# Altium schematic symbol library AMA4PEVB.SCHLIB: 14 symbols
Pins are listed as number, name and electrical type; pins without a type are passive.

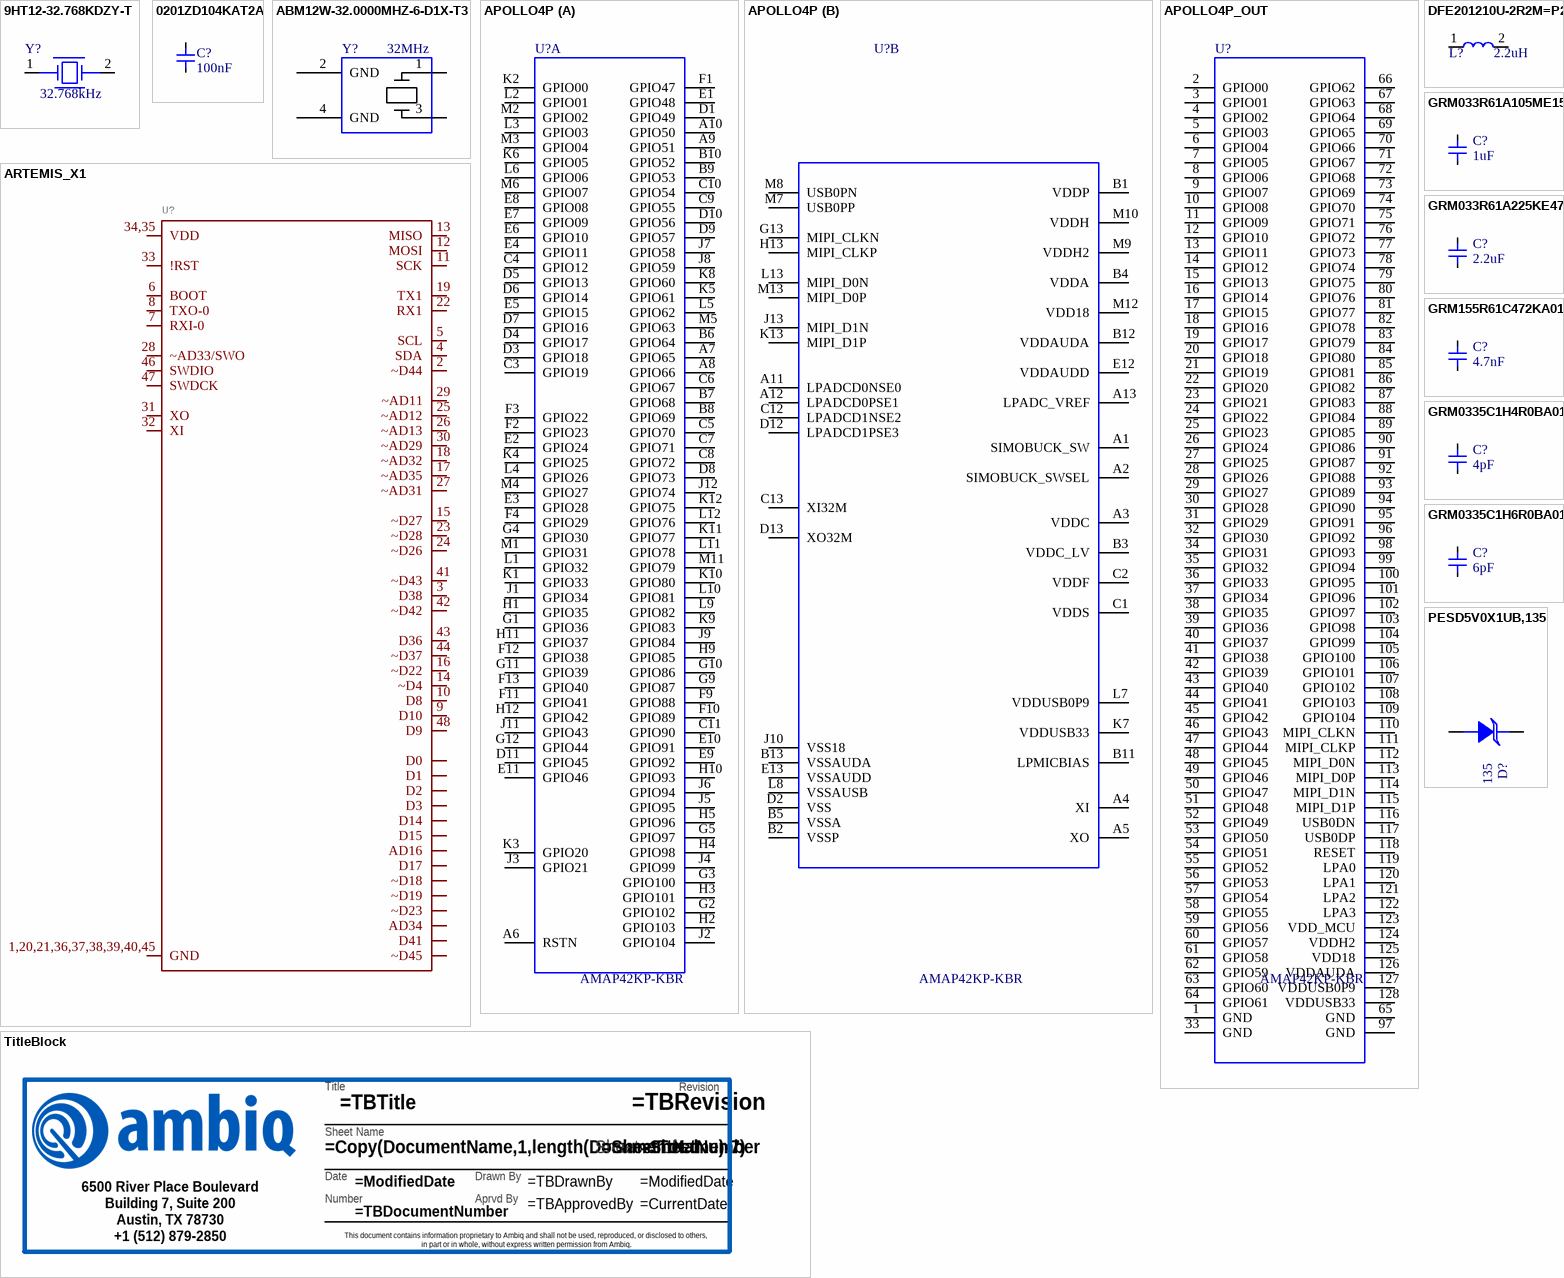
[diagram p0: symbols 9HT12-32.768KDZY-T to TitleBlock]

## 9HT12-32.768KDZY-T
designator Y?, comment 32.768kHz
NONE; Manufacturer: TXC; AMBIQ PN: 9HT12-32.768KDZY-T; Load Capacitance: 7pF; ESR (Equivalent Series Resistance): 90kR; Frequency Tolerance: 20ppm; Supplier 1: Newark; Supplier Part Number 1: 45AC5777; Manufacturer Part Number: 9HT12-32.768KDZY-T; RoHS: Yes; Category: Crystals; Stock 1: 2496; Pricing 1: 1=1.39000, 10=1.33000, 25=1.26000, 50=1.19000, 100=1.12000 (USD); Mount: Surface Mount; Case/Package: SMD/SMT; Min Operating Temperature: -40°C; Max Operating Temperature: 85°C; Packaging: Tape and Reel; Frequency: 32.768kHz; Length: 0.063inch; Width: 0.039inch; Height: 0.02inch; Lead Free: Lead Free; ComponentLink1URL: http://www.txccrystal.com/images/pdf/number-crystal-khz.pdf?src-supplier=Digi-Key; ComponentLink1Description: http://www.txccrystal.com/images/pdf/number-crystal-khz.pdf?src-supplier=Digi-Key; ComponentLink2URL: http://www.txccrystal.com/images/pdf/9ht12.pdf?src-supplier=Digi-Key; ComponentLink2Description: http://www.txccrystal.com/images/pdf/9ht12.pdf?src-supplier=Digi-Key
footprint XTAL2-1P6X1P0-SM
pins: 1, 2

## 0201ZD104KAT2A
designator C?, comment 100nF
NONE; Manufacturer: Kyocera AVX; AMBIQ PN: 0201ZD104KAT2A; Tolerance: 10%; Voltage Rating: 10V; Supplier 1: Arrow Electronics; Supplier Part Number 1: 0201ZD104KAT2A; Manufacturer Part Number: 0201ZD104KAT2A; RoHS: Yes; Category: Ceramic Capacitors; Stock 1: 105000; Pricing 1: 15000=0.00770, 30000=0.00750, 45000=0.00740, 60000=0.00720, 75000=0.00690, 150000=0.00620 (USD); Mount: Surface Mount; Case/Package: 0201; Case Code (Metric): 0603; Case Code (Imperial): 0201; Min Operating Temperature: -55°C; Max Operating Temperature: 85°C; Capacitance: 100nF; Packaging: Tape and Reel; Voltage Rating (DC): 10V; Series: -; Lead Free: Lead Free; RoHS Compliant: Yes; ComponentLink1URL: http://www.mouser.com/ds/2/40/cx5r-776519.pdf?src-supplier=Mouser; ComponentLink1Description: http://www.mouser.com/ds/2/40/cx5r-776519.pdf?src-supplier=Mouser
footprint IPC_A
footprint IPC_B
footprint IPC_C
footprint MFG
pins: 1, 2

## ABM12W-32.0000MHZ-6-D1X-T3
designator Y?, comment 32MHz
NONE; Manufacturer: Abracon; AMBIQ PN: ABM12W-32.0000MHZ-6-D1X-T3; Load Capacitance: 6pF; ESR (Equivalent Series Resistance): 100R; Frequency Tolerance: 10ppm; Frequency Stability: 20ppm; Supplier 1: Mouser; Supplier Part Number 1: 815-12W32-6D1XT; Manufacturer Part Number: ABM12W-32.0000MHZ-6-D1X-T3; RoHS: Yes; Category: Crystals; Stock 1: 2341; Pricing 1: 1=0.99000, 10=0.88400, 50=0.88400, 100=0.73000, 1000=0.57600, 10000=0.53700 (USD); Mount: Surface Mount; Case/Package: SMD/SMT; Min Operating Temperature: -40°C; Max Operating Temperature: 85°C; Packaging: Tape and Reel; Frequency: 32MHz; ComponentLink1URL: https://abracon.com/Resonators/ABM12W.pdf?src-supplier=Digi-Key; ComponentLink1Description: https://abracon.com/Resonators/ABM12W.pdf?src-supplier=Digi-Key; RoHS Compliant: Yes
footprint XOSC_ABM12W_1.2x1.6
pins: 1, 2 GND, 3, 4 GND

## APOLLO4P
designator U?, comment AMAP42KP-KBR
None; AMBIQ PN: APOLLO4P; Category: Microcontrollers
footprint BGA146C35P13X12_390X430X350
part A pins: A6 RSTN, A7 GPIO65, A8 GPIO66, A9 GPIO51, A10 GPIO50, B6 GPIO64, B7 GPIO68, B8 GPIO69, B9 GPIO53, B10 GPIO52, C3 GPIO19, C4 GPIO12, C5 GPIO70, C6 GPIO67, C7 GPIO71, C8 GPIO72, C9 GPIO55, C10 GPIO54, C11 GPIO90, D1 GPIO49, D3 GPIO18, D4 GPIO17, D5 GPIO13, D6 GPIO14, D7 GPIO16, D8 GPIO73, D9 GPIO57, D10 GPIO56, D11 GPIO45, E1 GPIO48, E2 GPIO24, E3 GPIO28, E4 GPIO11, E5 GPIO15, E6 GPIO10, E7 GPIO09, E8 GPIO08, E9 GPIO92, E10 GPIO91, E11 GPIO46, F1 GPIO47, F2 GPIO23, F3 GPIO22, F4 GPIO29, F9 GPIO88, F10 GPIO89, F11 GPIO41, F12 GPIO38, F13 GPIO40, G1 GPIO36, G2 GPIO102, G3 GPIO100, G4 GPIO30, G5 GPIO97, G9 GPIO87, G10 GPIO86, G11 GPIO39, G12 GPIO44, H1 GPIO35, H2 GPIO103, H3 GPIO101, H4 GPIO98, H5 GPIO96, H9 GPIO85, H10 GPIO93, H11 GPIO37, H12 GPIO42, J1 GPIO34, J2 GPIO104, J3 GPIO21, J4 GPIO99, J5 GPIO95, J6 GPIO94, J7 GPIO58, J8 GPIO59, J9 GPIO84, J11 GPIO43, J12 GPIO74, K1 GPIO33, K2 GPIO00, K3 GPIO20, K4 GPIO25, K5 GPIO61, K6 GPIO05, K8 GPIO60, K9 GPIO83, K10 GPIO80, K11 GPIO77, K12 GPIO75, L1 GPIO32, L2 GPIO01, L3 GPIO03, L4 GPIO26, L5 GPIO62, L6 GPIO06, L9 GPIO82, L10 GPIO81, L11 GPIO78, L12 GPIO76, M1 GPIO31, M2 GPIO02, M3 GPIO04, M4 GPIO27, M5 GPIO63, M6 GPIO07, M11 GPIO79
part B pins: A1 SIMOBUCK_SW, A2 SIMOBUCK_SWSEL, A3 VDDC, A4 XI, A5 XO, A11 LPADCD0NSE0, A12 LPADCD0PSE1, A13 LPADC_VREF, B1 VDDP (power), B2 VSSP, B3 VDDC_LV, B4 VDDA, B5 VSSA, B11 LPMICBIAS, B12 VDDAUDA, B13 VSSAUDA, C1 VDDS, C2 VDDF, C12 LPADCD1NSE2, C13 XI32M, D2 VSS, D12 LPADCD1PSE3, D13 XO32M, E12 VDDAUDD, E13 VSSAUDD, G13 MIPI_CLKN, H13 MIPI_CLKP, J10 VSS18, J13 MIPI_D1N, K7 VDDUSB33, K13 MIPI_D1P, L7 VDDUSB0P9, L8 VSSAUSB, L13 MIPI_D0N, M7 USB0PP, M8 USB0PN, M9 VDDH2, M10 VDDH, M12 VDD18, M13 MIPI_D0P

## APOLLO4P_OUT
designator U?, comment AMAP42KP-KBR
None; AMBIQ PN: APOLLO4P; Category: Microcontrollers
footprint AMAP4P
pins: 1 GND, 2 GPIO00, 3 GPIO01, 4 GPIO02, 5 GPIO03, 6 GPIO04, 7 GPIO05, 8 GPIO06, 9 GPIO07, 10 GPIO08, 11 GPIO09, 12 GPIO10, 13 GPIO11, 14 GPIO12, 15 GPIO13, 16 GPIO14, 17 GPIO15, 18 GPIO16, 19 GPIO17, 20 GPIO18, 21 GPIO19, 22 GPIO20, 23 GPIO21, 24 GPIO22, 25 GPIO23, 26 GPIO24, 27 GPIO25, 28 GPIO26, 29 GPIO27, 30 GPIO28, 31 GPIO29, 32 GPIO30, 33 GND, 34 GPIO31, 35 GPIO32, 36 GPIO33, 37 GPIO34, 38 GPIO35, 39 GPIO36, 40 GPIO37, 41 GPIO38, 42 GPIO39, 43 GPIO40, 44 GPIO41, 45 GPIO42, 46 GPIO43, 47 GPIO44, 48 GPIO45, 49 GPIO46, 50 GPIO47, 51 GPIO48, 52 GPIO49, 53 GPIO50, 54 GPIO51, 55 GPIO52, 56 GPIO53, 57 GPIO54, 58 GPIO55, 59 GPIO56, 60 GPIO57, 61 GPIO58, 62 GPIO59, 63 GPIO60, 64 GPIO61, 65 GND, 66 GPIO62, 67 GPIO63, 68 GPIO64, 69 GPIO65, 70 GPIO66, 71 GPIO67, 72 GPIO68, 73 GPIO69, 74 GPIO70, 75 GPIO71, 76 GPIO72, 77 GPIO73, 78 GPIO74, 79 GPIO75, 80 GPIO76, 81 GPIO77, 82 GPIO78, 83 GPIO79, 84 GPIO80, 85 GPIO81, 86 GPIO82, 87 GPIO83, 88 GPIO84, 89 GPIO85, 90 GPIO86, 91 GPIO87, 92 GPIO88, 93 GPIO89, 94 GPIO90, 95 GPIO91, 96 GPIO92, 97 GND, 98 GPIO93, 99 GPIO94, 100 GPIO95, 101 GPIO96, 102 GPIO97, 103 GPIO98, 104 GPIO99, 105 GPIO100, 106 GPIO101, 107 GPIO102, 108 GPIO103, 109 GPIO104, 110 MIPI_CLKN, 111 MIPI_CLKP, 112 MIPI_D0N, 113 MIPI_D0P, 114 MIPI_D1N, 115 MIPI_D1P, 116 USB0DN, 117 USB0DP, 118 RESET, 119 LPA0, 120 LPA1, 121 LPA2, 122 LPA3, 123 VDD_MCU, 124 VDDH2, 125 VDD18, 126 VDDAUDA, 127 VDDUSB0P9, 128 VDDUSB33

## ARTEMIS_X1
designator U?
GateName_1: G$1; SymbolName_1: ARTEMIS; DeviceSetName: ARTEMIS_X1; PROD_ID: SUB-14359; LibraryName: Module-Pads; Package: ARTEMIS
footprint AMAP4P
pins: 1,20,21,36,37,38,39,40,45 GND (io), 2 ~D44 (io), 3 D38 (io), 4 SDA (io), 5 SCL (io), 6 BOOT (io), 7 RXI-0 (io), 8 TXO-0 (io), 9 D10 (io), 10 D8 (io), 11 SCK (io), 12 MOSI (io), 13 MISO (io), 14 ~D4 (io), 15 ~D27 (io), 16 ~D22 (io), 17 ~AD35 (io), 18 ~AD32 (io), 19 TX1 (io), 22 RX1 (io), 23 ~D28 (io), 24 ~D26 (io), 25 ~AD12 (io), 26 ~AD13 (io), 27 ~AD31 (io), 28 ~AD33/SWO (io), 29 ~AD11 (io), 30 ~AD29 (io), 31 XO (io), 32 XI (io), 33 !RST (io), 34,35 VDD (io), 41 ~D43 (io), 42 ~D42 (io), 43 D36 (io), 44 ~D37 (io), 46 SWDIO (io), 47 SWDCK (io), 48 D9 (io), ?1 D15 (io), ?2 D14 (io), ?3 D3 (io), ?4 D2 (io), ?5 D0 (io), ?6 D1 (io), ?7 AD16 (io), ?8 D41 (io), ?9 AD34 (io), ?10 ~D23 (io), ?11 ~D19 (io), ?12 D17 (io), ?13 ~D18 (io), ?14 ~D45 (io)

## DFE201210U-2R2M=P2
designator L?, comment 2.2uH
NONE; Manufacturer: Murata; AMBIQ PN: DFE201210U-2R2M=P2; Supplier 1: Arrow Electronics; Supplier Part Number 1: DFE201210U-2R2M=P2; Manufacturer Part Number: DFE201210U-2R2M=P2; RoHS: Yes; Category: Fixed Inductors; Stock 1: 206; Pricing 1: 1=0.40140, 10=0.29940, 25=0.27320, 100=0.22140 (USD); RoHS Compliant: Yes; ComponentLink1URL: http://search.murata.co.jp/Ceramy/image/img/P02/J(E)TE243A-0029_DFE201210U_reference.pdf?src-supplier=Digi-Key; ComponentLink1Description: http://search.murata.co.jp/Ceramy/image/img/P02/J(E)TE243A-0029_DFE201210U_reference.pdf?src-supplier=Digi-Key; Case/Package: 0805
footprint IPC_A
footprint IPC_B
footprint IPC_C
footprint MFG
pins: 1, 2

## GRM033R61A105ME15D
designator C?, comment 1uF
NONE; Manufacturer: Murata; AMBIQ PN: GRM033R61A105ME15D; Tolerance: 20%; Voltage Rating: 10V; Dielectric: X5R; Supplier 1: Arrow Electronics; Supplier Part Number 1: GRM033R61A105ME15D; Manufacturer Part Number: GRM033R61A105ME15D; RoHS: Yes; Category: Ceramic Capacitors; Stock 1: 387591; Pricing 1: 1=0.35440, 10=0.26860, 25=0.26600, 50=0.24050, 100=0.18220, 250=0.18020, 500=0.17800, 1000=0.12040, 3000=0.11920, 6000=0.08160,; Mount: Surface Mount; Case/Package: 0201; Case Code (Metric): 0603; Case Code (Imperial): 0201; Min Operating Temperature: -55°C; Max Operating Temperature: 85°C; Capacitance: 1uF; Packaging: Tape and Reel; Voltage Rating (DC): 10V; Length: 0.024inch; Width: 0.012inch; Thickness: 0.015inch; RoHS Compliant: Yes; ComponentLink1URL: http://search.murata.co.jp/Ceramy/image/img/A01X/G101/ENG/GRM033R61A105ME15-01.pdf?src-supplier=Digi-Key; ComponentLink1Description: http://search.murata.co.jp/Ceramy/image/img/A01X/G101/ENG/GRM033R61A105ME15-01.pdf?src-supplier=Digi-Key
footprint IPC_A
footprint IPC_B
footprint IPC_C
footprint MFG
pins: 1, 2

## GRM033R61A225KE47D
designator C?, comment 2.2uF
NONE; Manufacturer: Murata; AMBIQ PN: GRM033R61A225KE47D; Tolerance: 10%; Voltage Rating: 10V; Dielectric: X5R; Supplier 1: Arrow Electronics; Supplier Part Number 1: GRM033R61A225KE47D; Manufacturer Part Number: GRM033R61A225KE47D; RoHS: Yes; Category: Ceramic Capacitors; Stock 1: 990; Pricing 1: 1=0.27590, 10=0.23000, 25=0.18010, 100=0.10000, 250=0.09900, 500=0.06860, 1000=0.06790, 3000=0.06720, 6000=0.05140, 15000=0.050; Mount: Surface Mount; Case/Package: 0201; Case Code (Metric): 0603; Case Code (Imperial): 0201; Min Operating Temperature: -55°C; Max Operating Temperature: 85°C; Capacitance: 2.2uF; Packaging: Tape and Reel; Voltage Rating (DC): 10V; Length: 0.024inch; Width: 0.012inch; Thickness: 0.015inch; RoHS Compliant: Yes; ComponentLink1URL: http://search.murata.co.jp/Ceramy/image/img/A01X/G101/ENG/GRM033R61A225KE47-01.pdf?src-supplier=Digi-Key; ComponentLink1Description: http://search.murata.co.jp/Ceramy/image/img/A01X/G101/ENG/GRM033R61A225KE47-01.pdf?src-supplier=Digi-Key
footprint IPC_A
footprint IPC_B
footprint IPC_C
footprint MFG
pins: 1, 2

## GRM155R61C472KA01D
designator C?, comment 4.7nF
NONE; Manufacturer: Murata; AMBIQ PN: GRM155R61C472KA01D; Tolerance: 10%; Voltage Rating: 16V; Dielectric: X5R; Supplier 1: Arrow Electronics; Supplier Part Number 1: GRM155R61C472KA01D; Manufacturer Part Number: GRM155R61C472KA01D; RoHS: Yes; Category: Ceramic Capacitors; Stock 1: 3; Pricing 1: 1=0.07090 (USD); Mount: Surface Mount; Case/Package: 0402; Case Code (Metric): 1005; Case Code (Imperial): 0402; Min Operating Temperature: -55°C; Max Operating Temperature: 85°C; Capacitance: 4.7nF; Packaging: Tape and Reel; Voltage Rating (DC): 16V; Series: GRM; Construction: Flat; Length: 1mm; Width: 0.02inch; Height: 0.5mm; Thickness: 0.022inch; Depth: 0.5mm; Radiation Hardening: No; RoHS Compliant: Yes; ComponentLink1URL: https://datasheet.ciiva.com/11620/product-11620403.pdf?src-supplier=Avnet; ComponentLink1Description: https://datasheet.ciiva.com/11620/product-11620403.pdf?src-supplier=Avnet; Package Quantity: 10000; Termination: SMD/SMT
footprint IPC_A
footprint IPC_B
footprint IPC_C
footprint MFG
pins: 1, 2

## GRM0335C1H4R0BA01D
designator C?, comment 4pF
NONE; Manufacturer: Murata; AMBIQ PN: GRM0335C1H4R0BA01D; Voltage Rating: 50V; Dielectric: C0G; Supplier 1: Arrow Electronics; Supplier Part Number 1: GRM0335C1H4R0BA01D; Manufacturer Part Number: GRM0335C1H4R0BA01D; RoHS: Yes; Category: Ceramic Capacitors; Stock 1: 3508; Pricing 1: 1=0.09680, 10=0.01620, 25=0.01560, 100=0.00890, 250=0.00860, 500=0.00620, 3000=0.00530 (USD); Mount: Surface Mount; Case/Package: 0201; Case Code (Metric): 0603; Case Code (Imperial): 0201; Min Operating Temperature: -55°C; Max Operating Temperature: 125°C; Capacitance: 4pF; Packaging: Tape and Reel; Voltage Rating (DC): 50V; Series: GRM; Length: 0.6mm; Width: 0.012inch; Height: 0.3mm; Thickness: 0.013inch; Depth: 0.3mm; ComponentLink1URL: http://www.mouser.com/ds/2/281/c02e-2905.pdf?src-supplier=Mouser; ComponentLink1Description: http://www.mouser.com/ds/2/281/c02e-2905.pdf?src-supplier=Mouser; Package Quantity: 15000; Termination: SMD/SMT
footprint IPC_A
footprint IPC_B
footprint IPC_C
footprint MFG
pins: 1, 2

## GRM0335C1H6R0BA01D
designator C?, comment 6pF
NONE; Manufacturer: Murata; AMBIQ PN: GRM0335C1H6R0BA01D; Voltage Rating: 50V; Dielectric: C0G; Supplier 1: Arrow Electronics; Supplier Part Number 1: GRM0335C1H6R0BA01D; Manufacturer Part Number: GRM0335C1H6R0BA01D; RoHS: Yes; Category: Ceramic Capacitors; Stock 1: 4052; Pricing 1: 1=0.06400, 10=0.01810, 25=0.01250, 100=0.00850, 250=0.00840, 500=0.00620, 1000=0.00510, 3000=0.00460 (USD); Mount: Surface Mount; Case/Package: 0201; Case Code (Metric): 0603; Case Code (Imperial): 0201; Min Operating Temperature: -55°C; Max Operating Temperature: 125°C; Capacitance: 6pF; Packaging: Tape and Reel; Voltage Rating (DC): 50V; Series: GRM; Length: 0.024inch; Width: 0.012inch; Height: 0.3mm; Thickness: 0.013inch; RoHS Compliant: Yes; ComponentLink1URL: http://www.mouser.com/ds/2/281/c02e-2905.pdf?src-supplier=Mouser; ComponentLink1Description: http://www.mouser.com/ds/2/281/c02e-2905.pdf?src-supplier=Mouser; Package Quantity: 15000; Termination: SMD/SMT
footprint IPC_A
footprint IPC_B
footprint IPC_C
footprint MFG
pins: 1, 2

## PESD5V0X1UB,135
designator D?
None; Manufacturer: Nexperia; AMBIQ PN: PESD5V0X1UB,135; Supplier 1: RSComponents; Supplier Part Number 1: 1704867; Manufacturer Part Number: PESD5V0X1UB,135; RoHS: Yes; Category: ESD and Circuit Protection ICs; Stock 1: 1; Pricing 1: 10000=0.12700 (USD); RoHS Compliant: Yes; ComponentLink1URL: https://www.mouser.com/ds/2/302/PESD5V0X1UB-1151612.pdf?src-supplier=Mouser; ComponentLink1Description: https://www.mouser.com/ds/2/302/PESD5V0X1UB-1151612.pdf?src-supplier=Mouser
footprint SC79
pins: 1 C, 2 A

## TitleBlock
designator ?  (value not drawn)  (graphical)
Title block for Ambiq Schematics. Please have the following parameters entered in Project>Project Options>Parameters: / TBTitle / TBDocumentNumber / TBRevision / TBDrawnBy / TBApprovedBy; AMBIQ PN: TitleBlock
text: Revision; Title; Sheet Name; Sheet; of; Date; Drawn By; Number; Aprvd By; 6500 River Place Boulevard / Building 7, Suite 200 / Austin, TX 78730 / +1 (512) 879-2850; This document contains information proprietary to Ambiq and shall not be used, reproduced, or disclosed to others, / in part or in whole, without express written permission from Ambiq.